# EAGLE library part IC4017 (library chuong)
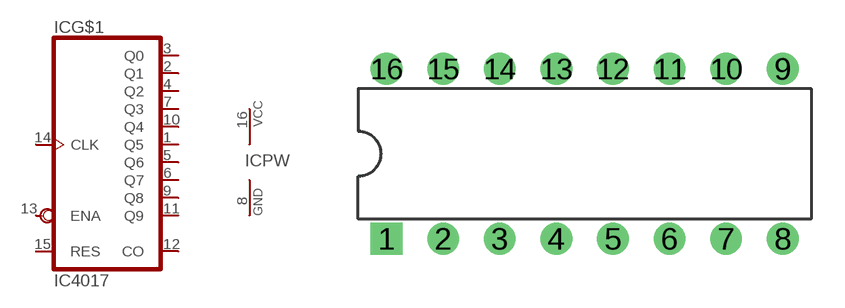
[diagram p45: symbol with the pads of DIL-16; footprint DIL-16]

Designator prefix IC; gates G$1=IC4017 PW=POWER

## IC4017  [DIL-16]
1  G$1:Q5  out
2  G$1:Q1  out
3  G$1:Q0  out
4  G$1:Q2  out
5  G$1:Q6  out
6  G$1:Q7  out
7  G$1:Q3  out
8  PW:GND  pwr
9  G$1:Q8  out
10  G$1:Q4  out
11  G$1:Q9  out
12  G$1:CO  out
13  G$1:ENA  in
14  G$1:CLK  in
15  G$1:RES  in
16  PW:VCC  pwr

## Footprint DIL-16 (pad centres in mm)
drill 0.61 pad 1.422 square: 1 -8.89,-3.81
drill 0.61 pad 1.422 round: 2 -6.35,-3.81; 3 -3.81,-3.81; 4 -1.27,-3.81; 5 1.27,-3.81; 6 3.81,-3.81; 7 6.35,-3.81; 8 8.89,-3.81; 9 8.89,3.81; 10 6.35,3.81; 11 3.81,3.81; 12 1.27,3.81; 13 -1.27,3.81; 14 -3.81,3.81; 15 -6.35,3.81; 16 -8.89,3.81